# EAGLE library part IMU (library imu)
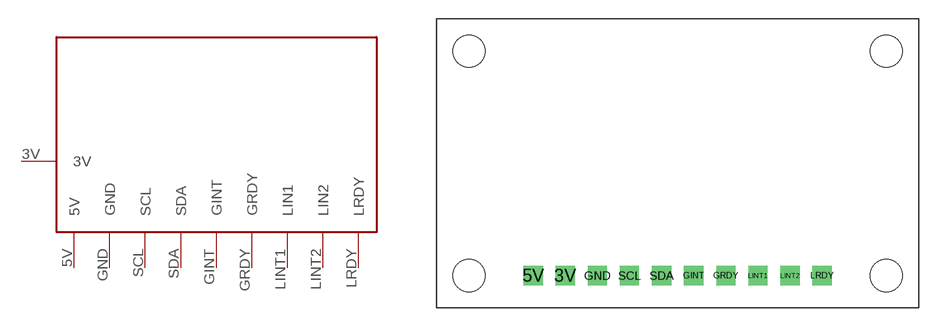
[diagram p0: symbol with the pads of IMU; footprint IMU]

Designator prefix -

## IMU  [IMU]
3V  3V
5V  5V
GINT  GINT
GND  GND
GRDY  GRDY
LINT1  LIN1
LINT2  LIN2
LRDY  LRDY
SCL  SCL
SDA  SDA

## Footprint IMU (pad centres in mm)
drill 1.016 square: 3V 10.16,2.54; 5V 7.62,2.54; GINT 20.32,2.54; GND 12.7,2.54; GRDY 22.86,2.54; LINT1 25.4,2.54; LINT2 27.94,2.54; LRDY 30.48,2.54; SCL 15.24,2.54; SDA 17.78,2.54
hole 2.54 at 2.54,2.54
hole 2.54 at 35.56,2.54
hole 2.54 at 2.54,20.32
hole 2.54 at 35.56,20.32